# Altium footprint library Regulator.PcbLib: 9 footprints
Each footprint in its own frame and in the unit in brackets; x right, y up, seen from the top. Pads: shape width x height; smd on the part's side, far side on the other; paste and mask are expansions set on the pad; w line width, h text height; cw(c..) or ccw(c..) is an arc to the next point about the centre after c.
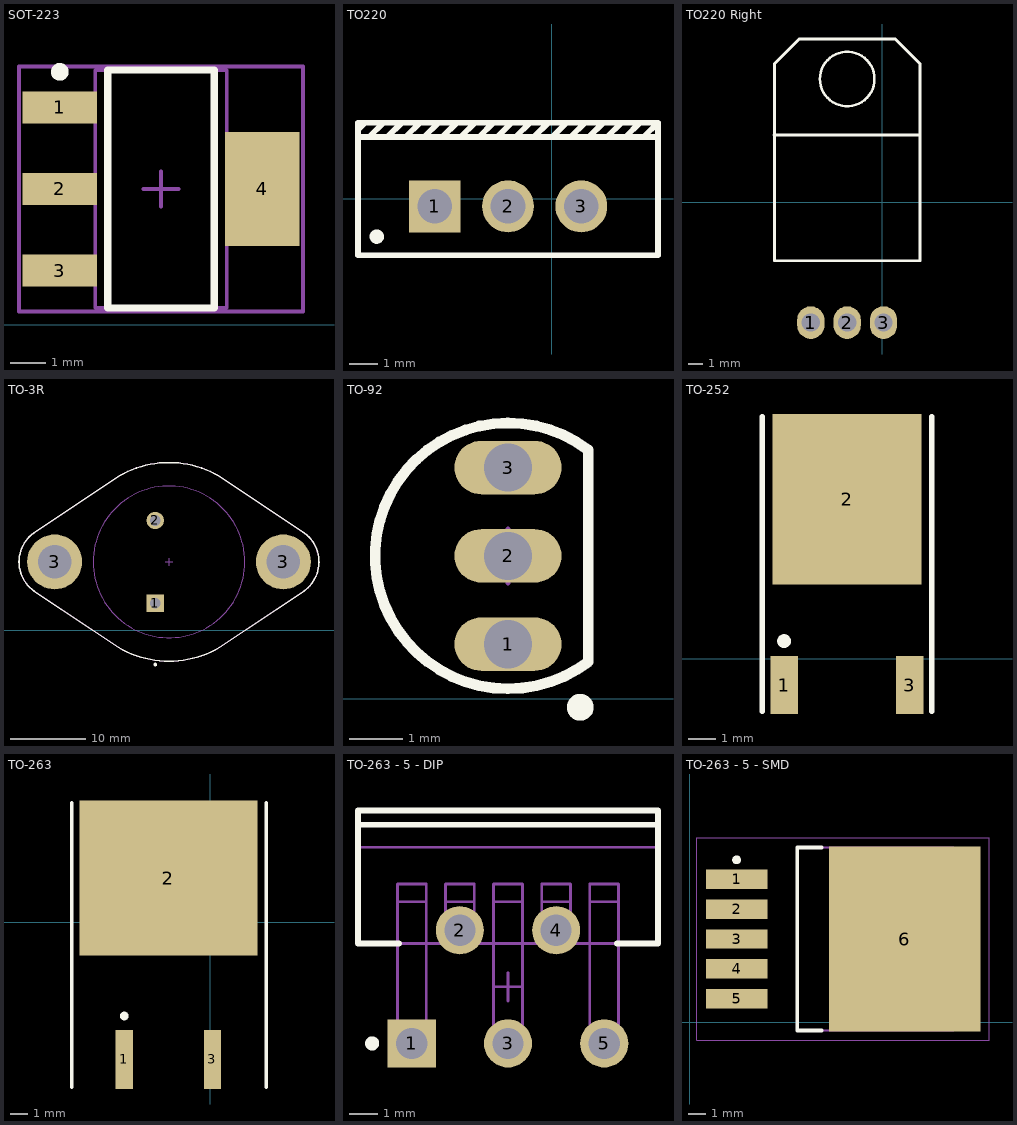
[diagram p0: the footprints below, top view; thin cyan lines are the x and y axes]

## SOT-223 [mm]
pads (4):
  rect 2.1x0.9 smd: 1(4.572,6.124) 2(4.572,3.824) 3(4.572,1.524)
  rect 2.1x3.2 smd: 4(10.272,3.824)
Top Overlay:
  circle w0.25: c4.572,7.124 r0.125
  lines w0.2: 5.922,0.474 5.922,7.174 8.922,7.174 8.922,0.474 5.922,0.474
Mechanical 13:
  lines w0.1: 5.572,0.474 5.572,7.174 9.272,7.174 9.272,0.474 5.572,0.474
Mechanical 15:
  lines w0.1: 6.922,3.824 7.922,3.824 ; 7.422,3.324 7.422,4.324 ; 3.422,0.374 3.422,7.274 11.422,7.274 11.422,0.374 3.422,0.374
3D body "TO-223.STEP": height 1.64, standoff -0.04, extent 3.932,0.582 10.912,7.066

## TO220 [mm]
pads (3):
  rect 1.8x1.8 hole 1.2: 1(-4.064,-0.254)
  round 1.8 hole 1.2: 2(-1.524,-0.254) 3(1.016,-0.254)
Top Overlay:
  circle w0.25: c-6.074,-1.304 r0.125
  lines w0.2: -6.724,2.146 3.676,2.146 ; -6.721,2.403 -6.478,2.646 ; -6.343,2.146 -5.843,2.646 ; -5.708,2.146 -5.208,2.646 ; -5.073,2.146 -4.573,2.646 ; -4.438,2.146 -3.938,2.646 ; -3.803,2.146 -3.303,2.646 ; -3.168,2.146 -2.668,2.646 ; -2.533,2.146 -2.033,2.646 ; -1.898,2.146 -1.398,2.646 ; -1.263,2.146 -0.763,2.646 ; -0.628,2.146 -0.128,2.646 ; 0.007,2.146 0.507,2.646 ; 0.642,2.146 1.142,2.646 ; 1.277,2.146 1.777,2.646 ; 1.912,2.146 2.412,2.646 ; 2.547,2.146 3.047,2.646 ; 3.175,2.146 3.675,2.646 ; 3.676,2.646 -6.724,2.646 -6.724,-1.954 3.676,-1.954 3.676,2.646
Mechanical 13:
  lines w0.1: -6.724,-1.954 -6.724,2.646 3.676,2.646 3.676,-1.954 -6.724,-1.954
Mechanical 15:
  lines w0.1: -2.024,-0.254 -1.024,-0.254 ; -1.524,-0.754 -1.524,0.246
3D body "L7805CV--3DModel-STEP-56544.STEP": height 19.5, standoff -9.4, extent -6.624,-1.96 3.576,2.54

## TO220 Right [mil]
pads (3):
  oval 75x90 hole 50: 1(-196.38,-331.26) 2(-96.38,-331.26) 3(3.62,-331.26)
Top Overlay:
  circle w7: c-96.38,338.74 r75
  lines w7.87: -297.38,184.96 102.62,184.96 ; -296.38,-161.26 -296.38,247.48 -296.38,380.74 -228.38,448.74 35.62,448.74 103.62,380.74 103.62,-161.26 -296.38,-161.26
3D body "78XXCV.STEP": height 175, standoff -112.5, extent -294.38,-339.26 105.62,444.74

## TO-3R [mm]
pads (4):
  rect 2.3x2.3 hole 1.4: 1(34.761,3.557)
  round 2.3 hole 1.4: 2(34.761,14.477)
  round 7.25 hole 4.4: 3(21.501,9.017) 3(51.651,9.017)
Top Overlay:
  circle w0.25: c34.761,-4.513 r0.125
  lines w0.2: 18.805,5.167 cw(c21.501,9.017) 18.805,12.867 ; 18.805,5.167 30.026,-2.328 ccw(c36.576,9.017) 43.126,-2.328 54.347,5.167 ; 18.805,12.867 30.026,20.362 cw(c36.576,9.017) 43.126,20.362 54.347,12.867 ; 54.211,12.959 cw(c51.651,9.017) 54.347,5.167
Mechanical 13:
  circle w0.1: c36.576,9.017 r10
  lines w0.1: 18.805,5.167 cw(c21.501,9.017) 18.805,12.867 ; 18.805,5.167 30.026,-2.328 ccw(c36.576,9.017) 43.126,-2.328 54.347,5.167 ; 18.805,12.867 30.026,20.362 cw(c36.576,9.017) 43.126,20.362 54.347,12.867 ; 54.211,12.959 cw(c51.651,9.017) 54.347,5.167
Mechanical 15:
  lines w0.1: 36.076,9.017 37.076,9.017 ; 36.576,8.517 36.576,9.517
3D body "L7805 DIP TO 3R.STEP": height 8.9, standoff -12, extent 17.18,-3.983 56.48,22.017

## TO-92 [mm]
pads (3):
  oval 2x1 hole 0.9: 1(6.35,1.016) 2(6.35,2.667) 3(6.35,4.318)
Top Overlay:
  circle w0.25: c7.7,-0.163 r0.125
  lines w0.2: 7.85,0.687 cw(c6.35,2.667) 7.85,4.647 7.85,0.687
Mechanical 13:
  lines w0.1: 7.85,0.687 cw(c6.35,2.667) 7.85,4.647 7.85,0.687
Mechanical 15:
  lines w0.1: 5.85,2.667 6.85,2.667 ; 6.35,2.167 6.35,3.167
3D body "2N3904--3DModel-STEP-56544.STEP": height 10.44, standoff -10, extent 4.065,0.391 7.897,4.951

## TO-252 [mm]
pads (3):
  rect 1x2.1 smd: 1(6.556,-0.961) 3(11.126,-0.961)
  rect 5.4x6.2 smd: 2(8.841,5.789)
Top Overlay:
  circle w0.25: c6.556,0.639 r0.125
  lines w0.2: 5.756,-1.911 5.756,8.789 ; 11.926,-1.911 11.926,8.789
3D body "User Library-DPAK-1.step": height 2.39, standoff -0.02, extent 5.571,-1.697 12.111,8.241

## TO-263 [mm]
pads (3):
  rect 1x3.4 smd: 1(-4.956,-7.891) 3(0.124,-7.891)
  rect 10.25x8.9 smd: 2(-2.416,2.559)
Top Overlay:
  circle w0.25: c-4.956,-5.387 r0.125
  lines w0.2: -7.979,-9.499 -7.979,6.901 ; 3.223,-9.499 3.223,6.901
3D body "DPAK-TO-263.STEP": height 4.88, standoff -0.13, extent -7.496,-8.774 2.664,6.49

## TO-263 - 5 - DIP [mm]
pads (5):
  rect 1.7x1.7 hole 1.1: 1(8.382,2.921)
  round 1.7 hole 1.1: 2(10.082,6.921) 3(11.782,2.921) 4(13.482,6.921) 5(15.182,2.921)
Top Overlay:
  circle w0.25: c6.982,2.921 r0.125
  lines w0.2: 6.482,10.651 17.082,10.651 ; 7.928,6.451 6.482,6.451 6.482,11.151 17.082,11.151 17.082,6.451 15.636,6.451
Mechanical 13:
  lines w0.1: 6.482,9.851 17.082,9.851 ; 7.872,3.236 7.872,2.606 8.892,2.606 8.892,3.236 ; 7.872,3.236 8.892,3.236 ; 7.872,3.236 7.872,7.926 ; 7.872,7.926 8.892,7.926 ; 7.872,7.926 7.872,8.556 8.892,8.556 8.892,7.926 ; 8.892,3.236 8.892,7.926 ; 9.572,7.236 9.572,6.606 10.592,6.606 10.592,7.236 ; 9.572,7.236 10.592,7.236 ; 9.572,7.236 9.572,7.926 ; 9.572,7.926 10.592,7.926 ; 9.572,7.926 9.572,8.556 10.592,8.556 10.592,7.926 ; 10.592,7.236 10.592,7.926 ; 11.272,3.236 11.272,7.926 ; 11.272,3.236 12.292,3.236 ; 11.272,3.236 11.272,2.606 12.292,2.606 12.292,3.236 ; 11.272,7.926 11.272,8.556 12.292,8.556 12.292,7.926 ; 11.272,7.926 12.292,7.926 ; 12.292,3.236 12.292,7.926 ; 12.972,7.236 12.972,6.606 13.992,6.606 13.992,7.236 ; 12.972,7.236 13.992,7.236 ; 12.972,7.236 12.972,7.926 ; 12.972,7.926 13.992,7.926 ; 12.972,7.926 12.972,8.556 13.992,8.556 13.992,7.926 ; 13.992,7.236 13.992,7.926 ; 14.672,3.236 14.672,7.926 ; 14.672,3.236 14.672,2.606 15.692,2.606 15.692,3.236 ; 14.672,3.236 15.692,3.236 ; 14.672,7.926 15.692,7.926 ; 14.672,7.926 14.672,8.556 15.692,8.556 15.692,7.926 ; 15.692,3.236 15.692,7.926 ; 6.482,6.451 6.482,11.151 17.082,11.151 17.082,6.451 6.482,6.451
Mechanical 15:
  lines w0.1: 11.282,4.921 12.282,4.921 ; 11.782,4.421 11.782,5.421
3D body "LM2596T-5.0.STEP": height 20.93, standoff -3.78, extent 6.702,2.813 16.862,11.284

## TO-263 - 5 - SMD [mm]
pads (6):
  rect 3.5x1.1 smd: 1(2.667,8.128) 2(2.667,6.428) 3(2.667,4.728) 4(2.667,3.028) 5(2.667,1.328)
  rect 8.6x10.5 smd: 6(12.217,4.728)
Top Overlay:
  circle w0.25: c2.667,9.228 r0.125
  lines w0.2: 7.517,-0.472 6.117,-0.472 6.117,9.928 7.517,9.928
Mechanical 13:
  lines w0.1: 6.117,-0.472 15.007,-0.472 15.007,9.928 6.117,9.928 6.117,-0.472
Mechanical 15:
  lines w0.05: 0.417,-1.022 17.017,-1.022 17.017,10.478 0.417,10.478 0.417,-1.022
  lines w0.1: 8.217,4.728 9.217,4.728 ; 8.717,4.228 8.717,5.228
3D body "LM2596S-3.3.STEP": height 4.65, standoff -0.15, extent 1.461,-0.381 15.812,9.779